# Altium footprint library 550215SA01F1.PcbLib: 1 footprints
Each footprint in its own frame and in the unit in brackets; x right, y up, seen from the top. Pads: shape width x height; smd on the part's side, far side on the other; paste and mask are expansions set on the pad; w line width, h text height; cw(c..) or ccw(c..) is an arc to the next point about the centre after c.
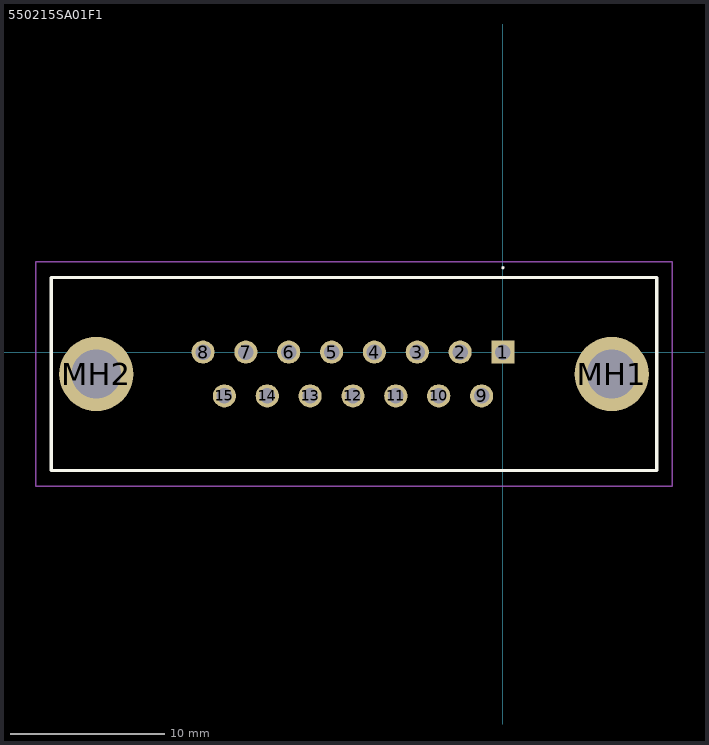
[diagram p0: the footprint, top view; thin cyan lines are the x and y axes]

## 550215SA01F1 [mm]
pads (17):
  rect 1.5x1.5 hole 1: 1(0,0)
  round 1.5 hole 1: 2(-2.77,0) 3(-5.54,0) 4(-8.31,0) 5(-11.08,0) 6(-13.85,0) 7(-16.62,0) 8(-19.39,0) 9(-1.385,-2.84) 10(-4.155,-2.84) 11(-6.925,-2.84) 12(-9.695,-2.84) 13(-12.465,-2.84) 14(-15.235,-2.84) 15(-18.005,-2.84)
  round 4.8 hole 3.2: MH1(7.03,-1.42) MH2(-26.29,-1.42)
Top Overlay:
  lines w0.1: 0,5.4 cw(c0,5.45) 0,5.5 ; 0,5.4 0,5.4 ; 0,5.4 ccw(c0,5.45) 0,5.5 ; 0,5.5 0,5.5
  lines w0.2: -29.2,-7.67 9.94,-7.67 9.94,4.83 -29.2,4.83 -29.2,-7.67
Mechanical 15:
  lines w0.1: -29.2,-7.67 9.94,-7.67 9.94,4.83 -29.2,4.83 -29.2,-7.67
Mechanical 20:
  lines w0.1: -30.2,-8.67 10.94,-8.67 10.94,5.83 -30.2,5.83 -30.2,-8.67